# EAGLE library part CC2500 (library myrx4)
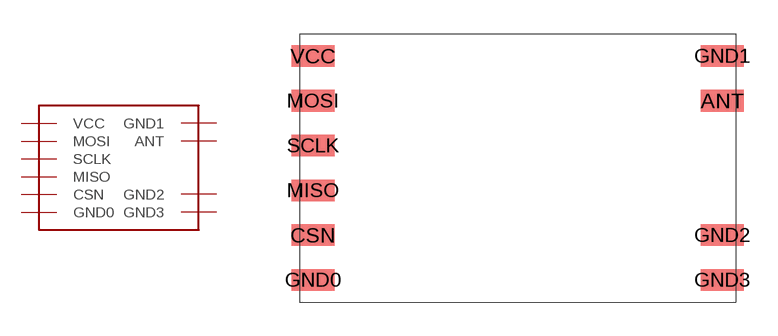
[diagram p1: symbol with the pads of CC2500; footprint CC2500]

Designator prefix -

## CC2500  [CC2500]
ANT  ANT
CSN  CSN
GND0  GND0
GND1  GND1
GND2  GND2
GND3  GND3
MISO  MISO
MOSI  MOSI
SCLK  SCLK
VCC  VCC

## Footprint CC2500 (pad centres in mm)
smd 1.93 x 0.965: ANT 9.398,3; CSN -8.89,-3; GND0 -8.89,-5; GND1 9.398,5; GND2 9.398,-3; GND3 9.398,-5; MISO -8.89,-1; MOSI -8.89,3; SCLK -8.89,1; VCC -8.89,5